# Altium schematic symbol library MicroSD_with_CD.SchLib: 1 symbol
Pins are listed as number, name and electrical type; pins without a type are passive.

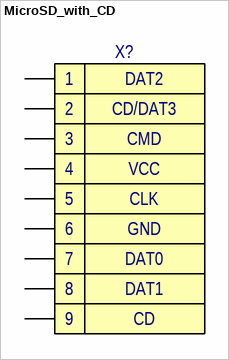
[diagram p0: symbol MicroSD_with_CD]

## MicroSD_with_CD
designator X?
ManufacturerPartNumber: ManufacturerPartNumber
pins: 1, 2, 3, 4, 5, 6, 7, 8, CD, G (power) hidden to GND
text: DAT2; CD/DAT3; CMD; VCC; CLK; GND; DAT0; DAT1; 9